# EAGLE library part XRP7713ILB-F (library Exar_By_element14_Batch_1)
Three Channel Digital PWM Step Down Controller
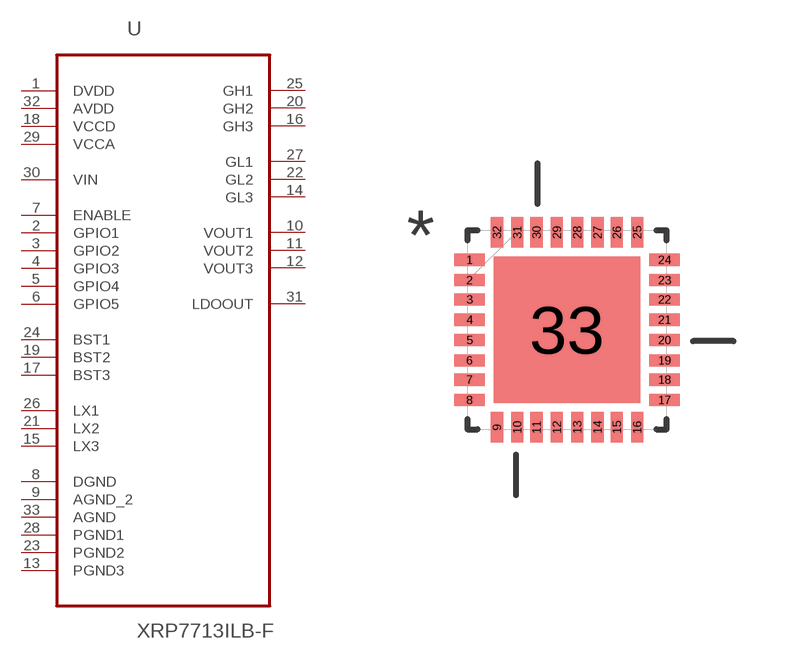
[diagram p103: symbol with the pads of QFN50P500X500X80-33N; footprint QFN50P500X500X80-33N]

Designator prefix U

## XRP7713ILB-F (MPN: XRP7713ILB-F; OC_FARNELL: 1820311; OC_NEWARK: 73R0499; PACKAGE: TQFN-32; SUPPLIER: Exar)  [QFN50P500X500X80-33N]
1  DVDD  pwr
2  GPIO1
3  GPIO2
4  GPIO3
5  GPIO4
6  GPIO5
7  ENABLE  in
8  DGND  pas
9  AGND_2  pas
10  VOUT1  out
11  VOUT2  out
12  VOUT3  out
13  PGND3  pas
14  GL3  out
15  LX3  pwr
16  GH3  out
17  BST3  pwr
18  VCCD  pwr
19  BST2  pwr
20  GH2  out
21  LX2  pwr
22  GL2  pas
23  PGND2  out
24  BST1  pwr
25  GH1  out
26  LX1  pwr
27  GL1  out
28  PGND1  pas
29  VCCA  pwr
30  VIN  pwr
31  LDOOUT  out
32  AVDD  pwr
33  AGND  pas

## Footprint QFN50P500X500X80-33N (pad centres in mm)
smd 0.762 x 0.305: 1 -2.438,1.753; 2 -2.438,1.245; 3 -2.438,0.762; 4 -2.438,0.254; 5 -2.438,-0.254; 6 -2.438,-0.762; 7 -2.438,-1.245; 8 -2.438,-1.753; 17 2.438,-1.753; 18 2.438,-1.245; 19 2.438,-0.762; 20 2.438,-0.254; 21 2.438,0.254; 22 2.438,0.762; 23 2.438,1.245; 24 2.438,1.753
smd 0.305 x 0.762: 9 -1.753,-2.438; 10 -1.245,-2.438; 11 -0.762,-2.438; 12 -0.254,-2.438; 13 0.254,-2.438; 14 0.762,-2.438; 15 1.245,-2.438; 16 1.753,-2.438; 25 1.753,2.438; 26 1.245,2.438; 27 0.762,2.438; 28 0.254,2.438; 29 -0.254,2.438; 30 -0.762,2.438; 31 -1.245,2.438; 32 -1.753,2.438
smd 3.658 x 3.658: 33 0,0